# Altium integrated library AS01508MS-SC11-WP-R.IntLib: 1 symbol
Pins are listed as number, name and electrical type; pins without a type are passive.

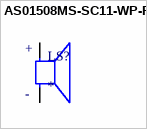
[diagram p0: symbol AS01508MS-SC11-WP-R]

## AS01508MS-SC11-WP-R
designator LS?
MF: PUI Audio, Inc.; MP: AS01508MS-SC11-WP-R; Availability: Unavailable; Price: None; Value: *; Package: None
footprint SPKR_AS01508MS-SC11-WP-R
pins: N NEG, P POS
text: +; -